# Altium footprint library MS5803.PcbLib: 17 footprints (part 1 of 2)
Each footprint in its own frame and in the unit in brackets; x right, y up, seen from the top. Pads: shape width x height; smd on the part's side, far side on the other; paste and mask are expansions set on the pad; w line width, h text height; cw(c..) or ccw(c..) is an arc to the next point about the centre after c.
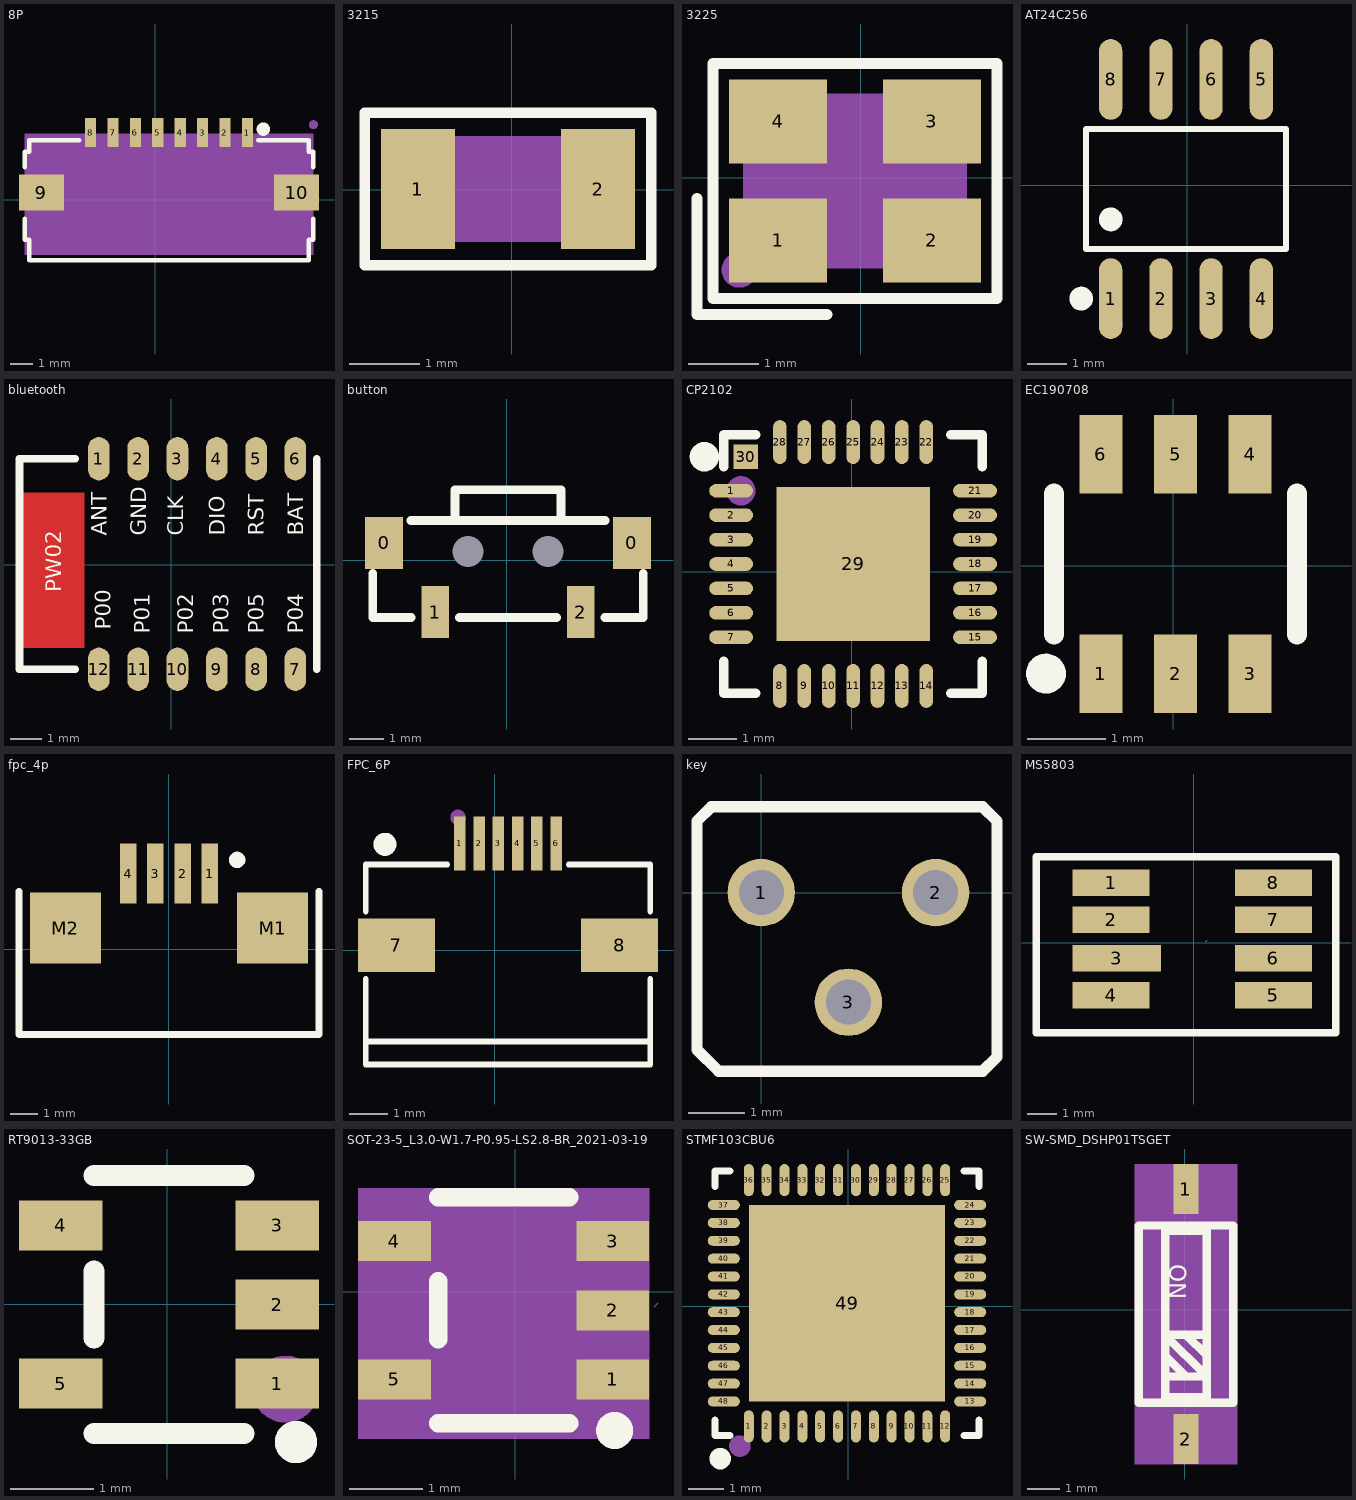
[diagram p0: the footprints below, top view; thin cyan lines are the x and y axes]

## 8P [mm]
pads (10):
  rect 0.5x1.3 smd: 1(4.104,3.002) 2(3.104,3.002) 3(2.104,3.002) 4(1.104,3.002) 5(0.104,3.002) 6(-0.896,3.002) 7(-1.896,3.002) 8(-2.896,3.002)
  rect 2x1.6 smd: 9(-5.096,0.322) 10(6.304,0.322)
Top Overlay:
  lines w0.2: -5.846,-0.848 -5.846,-1.794 -5.646,-1.794 -5.646,-2.694 6.854,-2.694 6.854,-1.794 7.054,-1.794 7.054,-0.848 ; -5.846,1.452 -5.846,2.153 -5.646,2.153 -5.646,2.652 -3.397,2.652 ; 4.596,2.652 6.854,2.652 6.854,2.153 7.054,2.153 7.054,1.452
  lines w0.3: 4.664,3.151 ccw(c4.814,3.152) 4.664,3.153
Mechanical 4:
  region: -5.846,2.947 7.054,2.947 7.054,-2.453 -5.846,-2.453
Mechanical 5:
  region: -2.796,2.652 -2.996,2.652 -2.996,3.352 -2.796,3.352
  region: -1.796,2.652 -1.996,2.652 -1.996,3.352 -1.796,3.352
  region: -0.796,2.652 -0.996,2.652 -0.996,3.352 -0.796,3.352
  region: 0.204,2.652 0.004,2.652 0.004,3.352 0.204,3.352
  region: 1.204,2.652 1.004,2.652 1.004,3.352 1.204,3.352
  region: 2.204,2.652 2.004,2.652 2.004,3.352 2.204,3.352
  region: 3.204,2.652 3.004,2.652 3.004,3.352 3.204,3.352
  region: 4.204,2.652 4.004,2.652 4.004,3.352 4.204,3.352
  region: -5.846,0.822 -4.346,0.822 -4.346,-0.178 -5.846,-0.178
  region: 7.053,-0.178 5.553,-0.178 5.553,0.822 7.053,0.822
Mechanical 6:
  circle w0.2: c7.054,3.352 r0.1
Mechanical 15:
  lines w0.003: 2.293,0.531 2.344,0.581

## 3215 [mm]
pads (2):
  rect 1.05x1.7 smd: 1(-1.329,0.012) 2(1.221,0.012)
Top Overlay:
  lines w0.152: -2.083,-1.067 1.974,-1.067 1.974,1.09 -2.083,1.09 -2.083,-1.067
Mechanical 4:
  region: -1.654,-0.738 -1.654,0.762 1.546,0.762 1.546,-0.738
Mechanical 5:
  region: 0.796,-0.738 0.796,0.762 1.446,0.762 1.446,-0.738
  region: -0.904,-0.738 -0.904,0.762 -1.554,0.762 -1.554,-0.738
Mechanical 6:
  circle w0.06: c-1.654,-0.738 r0.03
Mechanical 15:
  lines w0.003: 1,0.113 1.051,0.164

## 3225 [mm]
pads (4):
  rect 1.4x1.2 smd: 1(-1.18,-0.899) 2(1.02,-0.899) 3(1.02,0.801) 4(-1.18,0.801)
Top Overlay:
  lines w0.152: -2.337,-0.299 -2.337,-1.956 -0.48,-1.956 ; -2.108,-1.727 1.949,-1.727 1.949,1.63 -2.108,1.63 -2.108,-1.727
Mechanical 4:
  region: -1.68,-1.299 -1.68,1.201 1.52,1.201 1.52,-1.299
Mechanical 5:
  region: -1.58,-0.399 -0.68,-0.399 -0.68,-1.199 -1.58,-1.199
  region: 0.52,-0.399 1.42,-0.399 1.42,-1.199 0.52,-1.199
  region: 0.52,1.101 1.42,1.101 1.42,0.301 0.52,0.301
  region: -1.58,1.101 -0.68,1.101 -0.68,0.301 -1.58,0.301
Mechanical 6:
  circle w0.06: c-1.68,-1.299 r0.03
Mechanical 15:
  circle w0.254: c-1.731,-1.319 r0.127

## AT24C256 [mm]
pads (8):
  oval 0.588x2.045 smd: 1(-1.936,-2.861) 2(-0.666,-2.861) 3(0.604,-2.861) 4(1.874,-2.861) 5(1.874,2.684) 6(0.604,2.684) 7(-0.666,2.684) 8(-1.936,2.684)
Top Overlay:
  circle w0.3: c-2.683,-2.861 r0.15
  circle w0.3: c-1.936,-0.858 r0.15
  lines w0.152: -2.557,-1.61 2.495,-1.61 2.495,1.433 -2.557,1.433 -2.557,-1.61
Mechanical 15:
  circle w0.3: c-1.936,-3.489 r0.15

## bluetooth [mm]
pads (12):
  oval 0.7x1.4 smd: 1(-2.337,3.422) 2(-1.067,3.422) 3(0.203,3.422) 4(1.473,3.422) 5(2.743,3.422) 6(4.013,3.422) 7(4.013,-3.378) 8(2.743,-3.378) 9(1.473,-3.378) 10(0.203,-3.378) 11(-1.067,-3.378) 12(-2.337,-3.378)
Top Layer:
  pour cut-out: -2.802,2.318 -4.916,2.318 -4.916,-2.677 -2.802,-2.677
Top Overlay:
  lines w0.254: -3.099,-3.378 -4.897,-3.378 -4.897,3.422 -3.099,3.422 ; 4.703,-3.378 4.703,3.422
  text "RST" at 2.997,0.94 h0.51
  text "P05" at 2.997,-2.235 h0.51
  text "P04" at 4.267,-2.235 h0.51
  text "BAT" at 4.267,0.94 h0.51
  text "PW02" at -3.556,-0.889 h0.51
  text "ANT" at -2.083,0.94 h0.51
  text "P00" at -1.956,-2.108 h0.51
  text "GND" at -0.813,0.94 h0.51
  text "P01" at -0.686,-2.235 h0.51
  text "CLK" at 0.384,0.94 h0.5
  text "P02" at 0.711,-2.235 h0.51
  text "DIO" at 1.727,0.94 h0.51
  text "P03" at 1.854,-2.235 h0.51
Drill Drawing:
  pour cut-out: -2.8,2.317 -4.914,2.317 -4.914,-2.677 -2.8,-2.677

## button [mm]
pads (6):
  rect 1.1x1.5 smd: 0(-3.536,0.504) 0(3.614,0.504)
  round 0 hole 0.9: 0(-1.111,0.254) 0(1.189,0.254)
  rect 0.8x1.5 smd: 1(-2.061,-1.496) 2(2.139,-1.496)
Top Overlay:
  lines w0.254: -3.861,-0.381 -3.861,-1.656 -3.856,-1.651 -2.755,-1.651 ; -2.755,1.143 2.833,1.143 ; -1.485,1.143 -1.485,2.032 1.563,2.032 1.563,1.143 ; -1.358,-1.651 1.436,-1.651 ; 2.833,-1.651 3.934,-1.651 3.939,-1.646 3.939,-0.381
3D body "TSW 3x6x4.3-S-W.STEP": height 3.51, standoff -0.74, extent -3.861,-1.656 3.939,2.044

## CP2102 [mm]
pads (30):
  oval 0.9x0.28 smd: 1(-2.475,1.657) 2(-2.475,1.157) 3(-2.475,0.657) 4(-2.475,0.156) 5(-2.475,-0.344) 6(-2.475,-0.845) 7(-2.475,-1.345) 15(2.525,-1.345) 16(2.525,-0.845) 17(2.525,-0.344) 18(2.525,0.156) 19(2.525,0.657) 20(2.525,1.157) 21(2.525,1.657)
  oval 0.28x0.9 smd: 8(-1.476,-2.344) 9(-0.976,-2.344) 10(-0.475,-2.344) 11(0.025,-2.344) 12(0.525,-2.344) 13(1.026,-2.344) 14(1.526,-2.344) 22(1.526,2.656) 23(1.026,2.656) 24(0.525,2.656) 25(0.025,2.656) 26(-0.475,2.656) 27(-0.976,2.656) 28(-1.476,2.656)
  rect 3.15x3.15 smd: 29(0.025,0.156)
  rect 0.5x0.5 smd: 30(-2.175,2.356)
Top Overlay:
  lines w0.2: -2.625,-1.844 -2.625,-2.494 -1.975,-2.494 ; -2.625,2.156 -2.625,2.806 -1.975,2.806 ; 2.025,-2.494 2.675,-2.494 2.675,-1.844 ; 2.025,2.806 2.675,2.806 2.675,2.156
  lines w0.3: -2.875,2.354 cw(c-3.025,2.355) -2.875,2.356
Mechanical 15:
  circle w0.3: c-2.275,1.656 r0.15

## EC190708 [mm]
pads (6):
  rect 0.55x1 smd: 1(-0.923,-1.375) 2(0.027,-1.375) 3(0.977,-1.375) 4(0.977,1.425) 5(0.027,1.425) 6(-0.923,1.425)
Top Overlay:
  circle w0.254: c-1.624,-1.372 r0.127
  lines w0.254: -1.523,-0.875 -1.523,0.925 ; 1.577,-0.875 1.577,0.925
Mechanical 15:
  lines w0.003: 2.072,0.152 2.072,0.153

## fpc_4p [mm]
pads (6):
  rect 0.6x2.2 smd: 1(1.511,2.771) 2(0.511,2.771) 3(-0.489,2.771) 4(-1.489,2.771)
  rect 2.6x2.6 smd: M1(3.811,0.771) M2(-3.789,0.771)
Top Overlay:
  lines w0.254: -5.489,2.122 -5.489,-3.128 5.511,-3.128 5.511,2.122
  lines w0.3: 2.66,3.27 cw(c2.51,3.271) 2.66,3.273
Mechanical 15:
  lines w0.003: 3.351,0.41 3.402,0.46

## FPC_6P [mm]
pads (8):
  rect 0.3x1.4 smd: 1(-0.906,2.777) 2(-0.406,2.777) 3(0.094,2.777) 4(0.594,2.777) 5(1.094,2.777) 6(1.594,2.777)
  rect 2x1.4 smd: 7(-2.556,0.127) 8(3.244,0.127)
Top Overlay:
  circle w0.3: c-2.856,2.752 r0.15
  lines w0.15: -3.356,-2.377 3.988,-2.377 4.044,-2.32 ; -3.356,-0.753 -3.356,-2.973 4.044,-2.973 4.044,-0.753 ; -3.356,1.006 -3.356,2.227 -1.235,2.227 -1.256,2.227 ; 1.923,2.227 4.044,2.227 4.044,1.006
Mechanical 15:
  circle w0.2: c-0.956,3.451 r0.1

## key [mm] "K?"
pads (3):
  round 1.2 hole 0.8: 1(0,0) 2(3.1,0) 3(1.55,-1.95)
Top Overlay:
  lines w0.2: -1.143,-2.794 -0.762,-3.175 3.937,-3.175 4.191,-2.921 4.191,1.27 3.937,1.524 -0.889,1.524 -1.143,1.27 -1.143,-2.794

## MS5803 [mm]
pads (8):
  rect 2.6x0.9 smd: 1(-2.794,2.032) 2(-2.794,0.782) 4(-2.794,-1.768) 5(2.706,-1.768) 6(2.706,-0.518) 7(2.706,0.782) 8(2.706,2.032)
  rect 3x0.9 smd: 3(-2.594,-0.518)
Top Overlay:
  lines w0.254: -5.334,-3.048 -5.334,2.921 4.826,2.921 4.826,-3.048 -5.334,-3.048
Mechanical 15:
  lines w0.003: 0.419,0.038 0.47,0.089

## RT9013-33GB [mm]
pads (5):
  rect 1x0.6 smd: 1(1.322,-0.95) 2(1.322,0) 3(1.322,0.95) 4(-1.278,0.95) 5(-1.278,-0.95)
Top Overlay:
  circle w0.254: c1.546,-1.651 r0.127
  lines w0.254: -0.878,-1.55 0.922,-1.55 ; -0.878,-0.4 -0.878,0.4 ; -0.878,1.55 0.922,1.55
Mechanical 15:
  circle w0.4: c1.419,-1.016 r0.2

## SOT-23-5_L3.0-W1.7-P0.95-LS2.8-BR_2021-03-19 [mm]
pads (5):
  rect 1x0.55 smd: 1(1.341,-1.204) 2(1.341,-0.254) 3(1.341,0.696) 4(-1.659,0.696) 5(-1.659,-1.204)
Top Overlay:
  circle w0.254: c1.365,-1.905 r0.127
  lines w0.254: -1.059,-1.804 0.741,-1.804 ; -1.059,-0.654 -1.059,0.146 ; -1.059,1.296 0.741,1.296
Mechanical 4:
  region: -2.159,1.423 1.841,1.423 1.841,-2.019 -2.159,-2.019
Mechanical 5:
  region: -2.159,-0.929 -1.159,-0.929 -1.159,-1.479 -2.159,-1.479
  region: -2.159,0.971 -1.159,0.971 -1.159,0.421 -2.159,0.421
  region: 0.841,0.971 1.841,0.971 1.841,0.421 0.841,0.421
  region: 0.841,0.021 1.841,0.021 1.841,-0.529 0.841,-0.529
  region: 0.841,-0.929 1.841,-0.929 1.841,-1.479 0.841,-1.479
Mechanical 15:
  lines w0.003: 1.911,-0.203 1.962,-0.152

## STMF103CBU6 [mm]
pads (49):
  oval 0.28x0.9 smd: 1(-2.786,-3.362) 2(-2.285,-3.362) 3(-1.785,-3.362) 4(-1.284,-3.362) 5(-0.784,-3.362) 6(-0.284,-3.362) 7(0.214,-3.362) 8(0.715,-3.362) 9(1.215,-3.362) 10(1.715,-3.362) 11(2.216,-3.362) 12(2.716,-3.362) 25(2.716,3.537) 26(2.216,3.537) 27(1.715,3.537) 28(1.215,3.537) 29(0.715,3.537) 30(0.214,3.537) 31(-0.284,3.537) 32(-0.784,3.537) 33(-1.284,3.537) 34(-1.785,3.537) 35(-2.285,3.537) 36(-2.786,3.537)
  oval 0.9x0.28 smd: 13(3.415,-2.663) 14(3.415,-2.163) 15(3.415,-1.662) 16(3.415,-1.162) 17(3.415,-0.662) 18(3.415,-0.161) 19(3.415,0.337) 20(3.415,0.837) 21(3.415,1.337) 22(3.415,1.838) 23(3.415,2.338) 24(3.415,2.838) 37(-3.484,2.838) 38(-3.484,2.338) 39(-3.484,1.838) 40(-3.484,1.337) 41(-3.484,0.837) 42(-3.484,0.337) 43(-3.484,-0.161) 44(-3.484,-0.662) 45(-3.484,-1.162) 46(-3.484,-1.662) 47(-3.484,-2.163) 48(-3.484,-2.663)
  rect 5.5x5.5 smd: 49(-0.035,0.088)
Top Overlay:
  lines w0.2: -3.735,-3.187 -3.735,-3.612 -3.31,-3.612 ; -3.735,3.363 -3.735,3.788 -3.31,3.788 ; 3.24,-3.612 3.665,-3.612 3.665,-3.187 ; 3.24,3.788 3.665,3.788 3.665,3.363
  lines w0.3: -3.586,-4.114 ccw(c-3.585,-4.264) -3.583,-4.114
Mechanical 15:
  circle w0.3: c-3.035,-3.912 r0.15

## SW-SMD_DSHP01TSGET [mil]
pads (2):
  rect 30x60 smd: 1(1.69,145) 2(1.69,-155)
Top Overlay:
  lines w10: -23.31,-80 26.69,-80 -23.31,-30 26.69,-30 26.69,-31 ; -23.31,-55 1.69,-80 ; 1.69,-30 26.69,-55 26.69,-58 ; -55,-111.3 58.39,-111.3 58.39,101.3 -55,101.3 -55,-111.3 ; -23.31,-105 26.69,-105 26.69,95 -23.31,95 -23.31,-105
  text "ON" at -18.31,55 h20
Mechanical 4:
  region: -60,175 63.39,175 63.39,-185 -60,-185
Mechanical 5:
  region: -13.31,175 16.69,175 16.69,115 -13.31,115
  region: -13.31,-125 16.69,-125 16.69,-185 -13.31,-185
Mechanical 15:
  lines w0.1: 45.7,-1 47.7,1